# Altium footprint library PCB - SWITCHES - SS-3235S-L1.PCBLIB: 2 footprints
Each footprint in its own frame and in the unit in brackets; x right, y up, seen from the top. Pads: shape width x height; smd on the part's side, far side on the other; paste and mask are expansions set on the pad; w line width, h text height; cw(c..) or ccw(c..) is an arc to the next point about the centre after c.
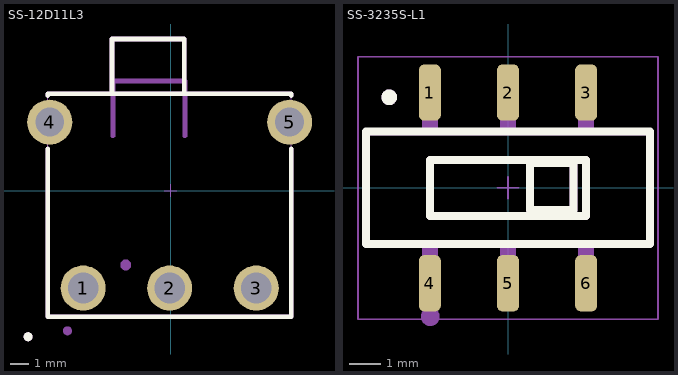
[diagram p0: the footprints below, top view; thin cyan lines are the x and y axes]

## SS-12D11L3 [mm]
height 2.5
pads (5):
  round 2.5 hole 1.7: 1(-4.85,-5.4) 2(-0.05,-5.4) 3(4.75,-5.4)
  round 2.5 hole 1.6: 4(-6.7,3.8) 5(6.6,3.8)
Top Overlay:
  circle w0.25: c-7.9,-8.1 r0.125
  lines w0.254: -6.8,2.322 -6.8,-7 6.7,-7 6.7,2.322 ; -6.8,5.278 -6.8,5.38 6.7,5.38 6.7,5.278 ; -3.25,5.38 -3.25,8.41 0.75,8.41 0.75,5.38
Top Assembly:
  circle w0.25: c-7.9,-8.1 r0.125
  lines w0.254: -6.8,2.322 -6.8,-7 6.7,-7 6.7,2.322 ; -6.8,5.278 -6.8,5.38 6.7,5.38 6.7,5.278 ; -3.25,5.38 -3.25,8.41 0.75,8.41 0.75,5.38
Bottom Assembly:
  circle w0.25: c-5.719,-7.768 r0.125
  circle w0.3: c-2.487,-4.119 r0.15
  region: -3.331,3.054 -3.331,6.084 -3.331,6.109 -3.312,6.156 -3.276,6.192 -3.229,6.211 -3.204,6.211 0.796,6.211 0.821,6.211 0.868,6.192 0.904,6.156 0.923,6.109 0.923,6.084 0.923,3.054 0.923,3.001 0.848,2.927 0.743,2.927 0.669,3.001 0.669,3.054 0.669,5.957 -3.077,5.957 -3.077,3.054 -3.077,3.001 -3.151,2.927 -3.257,2.927 -3.331,3.001
Top Courtyard:
  lines w0.051: -6.8,-7 -6.8,5.38 -3.25,5.4 -3.25,8.41 0.75,8.4 0.75,5.4 6.7,5.38 6.7,-7 -6.8,-7
Top Designator:
  text ".Designator" at -4.878,-1.367 h1
Top Component Center:
  lines w0.05: -0.35,0 0.35,0 ; 0,-0.35 0,0.35
3D body "SS-12D11L3.stp": height 6.69, standoff -3.1, extent -6.8,-6.1 6.7,8.35

## SS-3235S-L1 [mm]
height 2.5
pads (6):
  rrect50% 0.7x1.8 smd: 1(-2.5,3.05) 2(0,3.05) 3(2.5,3.05) 4(-2.5,-3.05) 5(0,-3.05) 6(2.5,-3.05)
Top Overlay:
  circle w0.25: c-3.8,2.9 r0.125
  lines w0.254: -4.55,-1.8 4.55,-1.8 4.55,1.8 -4.55,1.8 -4.55,-1.8 ; -2.5,-0.9 2.5,-0.9 2.5,0.9 -2.5,0.9 -2.5,-0.9 ; 0.7,-0.7 2.1,-0.7 2.1,0.8 0.7,0.8 0.7,-0.7
Top Assembly:
  circle w0.25: c-3.8,2.9 r0.125
  region: 2.25,-3.45 2.25,-2.65 2.75,-2.65 2.75,-3.45
  region: -0.25,2.65 -0.25,3.45 0.25,3.45 0.25,2.65
  region: -0.25,-2.66 -0.25,-1.765 0.25,-1.765 0.25,-2.66
  region: -0.25,-3.45 -0.25,-2.65 0.25,-2.65 0.25,-3.45
  region: -0.25,1.765 -0.25,2.66 0.25,2.66 0.25,1.765
  region: 2.25,-2.66 2.25,-1.765 2.75,-1.765 2.75,-2.66
  region: 2.25,2.65 2.25,3.45 2.75,3.45 2.75,2.65
  region: 2.25,1.765 2.25,2.66 2.75,2.66 2.75,1.765
  region: -2.75,-3.45 -2.75,-2.65 -2.25,-2.65 -2.25,-3.45
  region: -2.75,1.765 -2.75,2.66 -2.25,2.66 -2.25,1.765
  region: -2.75,2.65 -2.75,3.45 -2.25,3.45 -2.25,2.65
  region: -2.75,-2.66 -2.75,-1.765 -2.25,-1.765 -2.25,-2.66
  lines w0.2: -4.55,-1.775 4.55,-1.775 4.55,1.775 -4.55,1.775 -4.55,-1.775
  lines w0.254: -2.5,-0.9 2.5,-0.9 2.5,0.9 -2.5,0.9 -2.5,-0.9 ; 0.7,-0.7 2.1,-0.7 2.1,0.8 0.7,0.8 0.7,-0.7
Bottom Assembly:
  circle w0.3: c-2.487,-4.119 r0.15
Top Courtyard:
  lines w0.05: -4.8,-4.2 -4.8,4.2 4.8,4.2 4.8,-4.2 -4.8,-4.2
Top Designator:
  text ".Designator" at -0.7,-0.3 h1
Top Component Center:
  lines w0.05: -0.35,0 0.35,0 ; 0,-0.35 0,0.35
3D body "SLW-913535-2A-SMT.stp": height 5.5, standoff 0, extent -4.55,-3.45 4.55,3.45